# Altium integrated library lib_mechanical.IntLib: 2 symbols
Pins are listed as number, name and electrical type; pins without a type are passive.

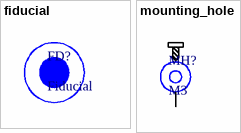
[diagram p0: symbols fiducial to mounting_hole]

## fiducial
designator FD?, comment Fiducial  (no BOM)
footprint fiducial_1_3

## mounting_hole
designator MH?, comment M3
Mounting hole
footprint mount_m3_normal
footprint mount_m3_loose
footprint mount_m3_close
footprint mount_m4_normal
footprint mount_m4_loose
footprint mount_m4_close
footprint mount_m2_normal
footprint mount_m2_loose
footprint mount_m2_close
pins: 1